# Altium footprint library NODE_V2.PcbLib: 36 footprints (part 3 of 3)
Each footprint in its own frame and in the unit in brackets; x right, y up, seen from the top. Pads: shape width x height; smd on the part's side, far side on the other; paste and mask are expansions set on the pad; w line width, h text height; cw(c..) or ccw(c..) is an arc to the next point about the centre after c.
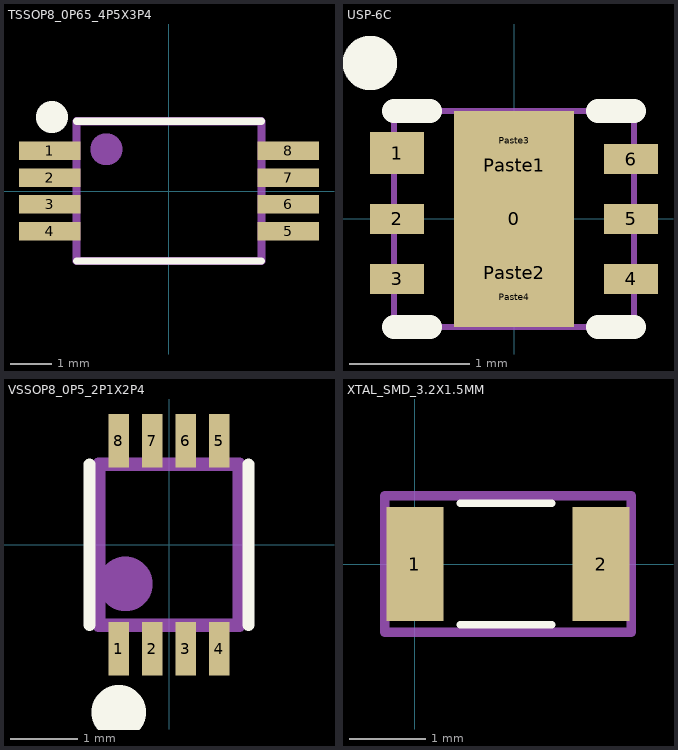
[diagram p2: the footprints below, top view; thin cyan lines are the x and y axes]

## TSSOP8_0P65_4P5X3P4 [mm]
height 1.2
pads (8):
  rrect0% 1.5x0.45 smd: 1(-2.9,0.975) 2(-2.9,0.325) 3(-2.9,-0.325) 4(-2.9,-0.975) 5(2.9,-0.975) 6(2.9,-0.325) 7(2.9,0.325) 8(2.9,0.975)
Top Overlay:
  circle w0.726: c-2.85,1.8 r0.025
  lines w0.178: -2.25,-1.7 2.25,-1.7 ; -2.25,1.7 2.25,1.7
Mechanical 2:
  circle w0.726: c-1.524,1.016 r0.025
  lines w0.178: -2.25,-1.7 2.25,-1.7 2.25,1.7 -2.25,1.7 -2.25,-1.7
Mechanical 16:
  lines w0.2: -2.25,-1.7 2.249,-1.7 2.25,-1.699 2.25,1.7 -2.25,1.7 -2.25,-1.65
Mechanical 28:
  text ".Comment" at -1.925,-0.1 h0.4
Mechanical 29:
  text ".Designator" at -0.4,0.85 h1
3D body: height 1.2, standoff 0, extent -2.25,-1.699 2.25,1.699

## USP-6C [mm]
pads (11):
  rect 1x1.8 smd paste-1.8: 0(0,0)
  rect 0.45x0.35 smd paste-0.04: 1(-0.975,0.55)
  rect 0.45x0.25 smd paste-0.04: 2(-0.975,0) 3(-0.975,-0.5) 4(0.975,-0.5) 5(0.975,0) 6(0.975,0.5)
  rect 0.8x0.3 on Top Paste paste+0: Paste1(0,0.45) Paste2(0,-0.45)
  rect 0.5x0.1 on Top Paste paste+0: Paste3(0,0.65) Paste4(0,-0.65)
Top Overlay:
  circle w0.254: c-1.2,1.3 r0.1
  lines w0.2: -1,-0.9 -0.7,-0.9 ; -1,0.9 -0.7,0.9 ; 0.7,-0.9 1,-0.9 ; 0.7,0.9 1,0.9
Mechanical 16:
  lines w0.05: -1,-0.9 -1,0.9 1,0.9 1,-0.9 -1,-0.9
Mechanical 28:
  text ".Comment" at -2.175,2.2 h0.4
Mechanical 29:
  text ".Designator" at -0.575,-0.2 h0.76
3D body: height 0.6, standoff 0, extent -0.999,-0.899 0.999,0.899

## VSSOP8_0P5_2P1X2P4 [mm]
height 0.9
pads (8):
  rect 0.3x0.8 smd: 1(-0.75,-1.55) 2(-0.25,-1.55) 3(0.25,-1.55) 4(0.75,-1.55) 5(0.75,1.55) 6(0.25,1.55) 7(-0.25,1.55) 8(-0.75,1.55)
Top Overlay:
  circle w0.762: c-0.75,-2.5 r0.025
  lines w0.178: -1.189,-1.2 -1.189,1.2 ; 1.189,-1.2 1.189,1.2
Mechanical 2:
  circle w0.762: c-0.65,-0.585 r0.025
  lines w0.178: -1.05,-1.2 -1.05,1.2 1.05,1.2 1.05,-1.2 -1.05,-1.2
Mechanical 16:
  lines w0.2: -1.05,-1.2 -1.05,1.2 1.05,1.2 1.05,-1.2 -1.05,-1.2
Mechanical 28:
  text ".Comment" at 1.275,1.1 h0.3
Mechanical 29:
  text ".Designator" at -0.575,0.825 h1
3D body: height 0.9, standoff 0, extent -1.188,-1.2 1.188,1.2

## XTAL_SMD_3.2X1.5MM [mm]
pads (2):
  rect 0.75x1.5 smd: 1(0,0) 2(2.45,0)
Top Overlay:
  lines w0.102: 0.6,-0.8 1.8,-0.8 ; 0.6,0.8 1.8,0.8
Mechanical 16:
  lines w0.127: -0.4,-0.9 -0.4,0.9 2.85,0.9 2.85,-0.9 -0.4,-0.9
Mechanical 28:
  text "KCBB" at -0.225,-0.45 h0.8
Mechanical 29:
  text ".Designator" at 0.375,-0.55 h1
3D body: height 0.9, standoff 0, extent -0.375,-0.75 2.825,0.75